# Altium schematic symbol library SOMA_15072021.SCHLIB: 76 symbols (part 2 of 2)
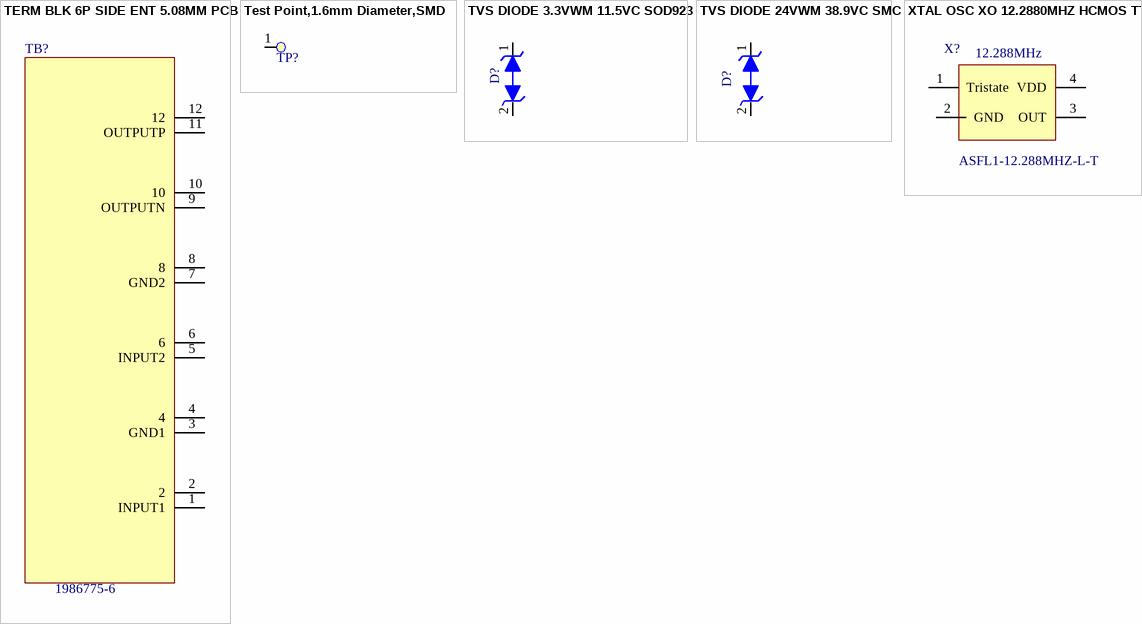
[diagram p4: symbols TERM BLK 6P SIDE ENT 5.08MM PCB to XTAL OSC XO 12.2880MHZ HCMOS TTL]

## XTAL OSC XO 12.2880MHZ HCMOS TTL
designator X?  value 12.288MHz  Manufacturer part Number: ASFL1-12.288MHZ-L-T  (hidden comment: XTAL OSC XO 12.2880MHZ HCMOS TTL)
Manufacturer: Abracon LLC; Rating: 3.3V,100ppm; Distributor: Digikey; Package: 4 SMD, No Lead; Operating Temperature: -40°C ~ 85°C; Type: Crystal; Distributor part Number: 535-10810-1-ND; Reference link: https://www.digikey.com/en/products/detail/abracon-llc/ASFL1-12-288MHZ-L-T/2623937; Unit Price: $1.14000
footprint XTAL500X320X130-4N (Footprint not found)
pins: 1 Tristate, 2 GND (power), 3 OUT, 4 VDD
2 alternate drawings of the same symbol